# Altium schematic symbol library Keystone.SchLib: 5 symbols
Pins are listed as number, name and electrical type; pins without a type are passive.

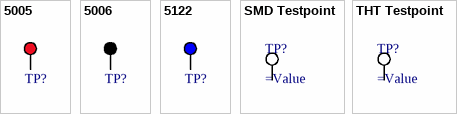
[diagram p0: symbols 5005 to THT Testpoint]

## 5005
designator TP?
Test Point, Compact, Red, TH
footprint Keystone5005
pins: 1

## 5006
designator TP?
Test Point, Compact, Black, TH
footprint Keystone5006
pins: 1

## 5122
designator TP?
Test Point, Compact, Blue, TH
footprint Keystone5122
pins: 1

## SMD Testpoint
designator TP?
Test Point, 1 Position SMD, RoHS, Tape and Reel; ComponentLink1Description: Manufacturer URL; ComponentLink2URL: http://www.keyelco.com/product-pdf.cfm?p=1357; ComponentLink1URL: http://www.keyelco.com/; ComponentLink2Description: Datasheet
footprint KSTN-5019_V (Test Point, 1-Leads, Body 3.81x2.03mm)
pins: 1

## THT Testpoint
designator TP?
Test Point, 1 Position SMD, RoHS, Tape and Reel; ComponentLink1Description: Manufacturer URL; ComponentLink2URL: http://www.keyelco.com/product-pdf.cfm?p=1357; ComponentLink1URL: http://www.keyelco.com/; ComponentLink2Description: Datasheet
footprint KSTN-5019_V (Test Point, 1-Leads, Body 3.81x2.03mm)
pins: 1